# EAGLE library part 74HC08 (library Logic)
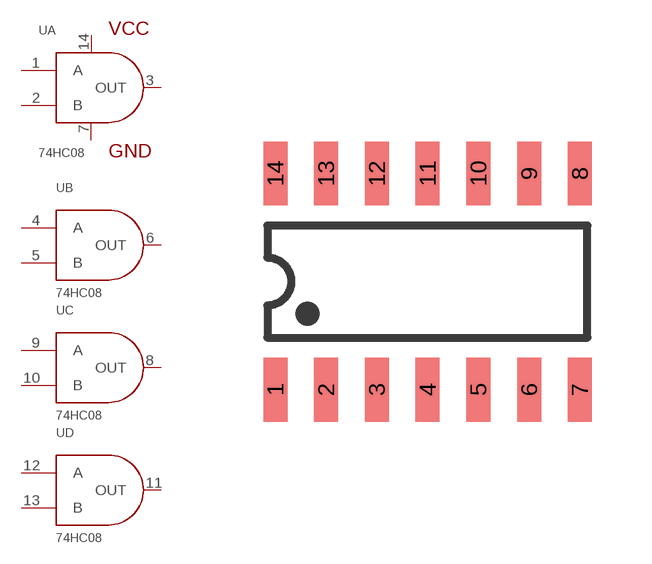
[diagram p0: symbol with the pads of SOIC14; footprint SOIC14]

Designator prefix U; gates B=AND C=AND D=AND A=AND_POWER

## 74HC08/SOIC-14  [SOIC14]
1  A:A
2  A:B
3  A:OUT
4  B:A
5  B:B
6  B:OUT
7  A:GND  pwr
8  C:OUT
9  C:A
10  C:B
11  D:OUT
12  D:A
13  D:B
14  A:VCC  pwr

## Footprint SOIC14 (pad centres in mm)
smd 0.6 x 1.6: 1 0,0; 2 1.27,0; 3 2.54,0; 4 3.81,0; 5 5.08,0; 6 6.35,0; 7 7.62,0; 8 7.62,5.4; 9 6.35,5.4; 10 5.08,5.4; 11 3.81,5.4; 12 2.54,5.4; 13 1.27,5.4; 14 0,5.4